# Altium schematic symbol library Components - 24.04.20 - 00.18.SchLib: 1 symbol
Pins are listed as number, name and electrical type; pins without a type are passive.

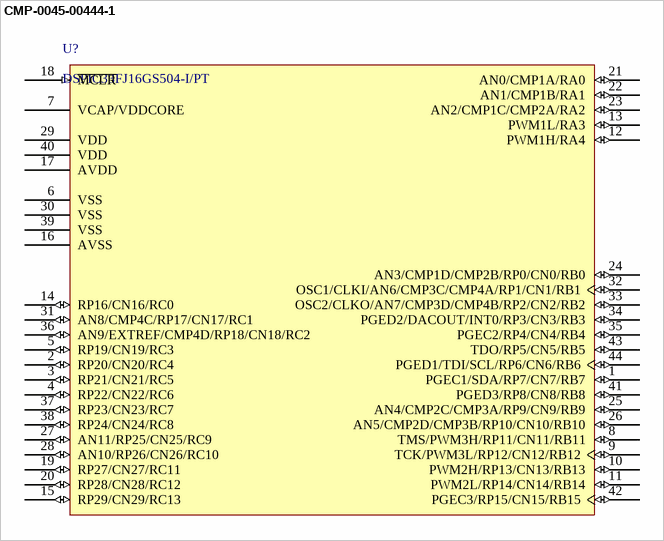
[diagram p0: symbol CMP-0045-00444-1]

## CMP-0045-00444-1
designator U?, comment DSPIC33FJ16GS504-I/PT
High-Performance 16-bit Digital Signal Controller, 16 KB Flash, 2 KB RAM , 44-Pin TQFP, Industrial Temperature; PackageVersion: revBB, Aug-2009; PackageDescription: 44-Lead Plastic Thin Quad Flatpack (PT) - 10x10x1mm Body, 2.00mm [TQFP]; Code_JEDEC: MS-026; PackageReference: TQFP-PT44; DatasheetVersion: revD, Mar-2009
footprint TQFP-PT44_M (Thin QFP, 44-Leads, Body 10x10mm, Pitch 0.8mm, IPC Low Density)
footprint TQFP-PT44_N (Thin QFP, 44-Leads, Body 10x10mm, Pitch 0.8mm, IPC Medium Density)
footprint TQFP-PT44_L (Thin QFP, 44-Leads, Body 10x10mm, Pitch 0.8mm, IPC High Density)
pins: 1 PGEC1/SDA/RP7/CN7/RB7 (io), 2 RP20/CN20/RC4 (io), 3 RP21/CN21/RC5 (io), 4 RP22/CN22/RC6 (io), 5 RP19/CN19/RC3 (io), 6 VSS (power), 7 VCAP/VDDCORE (power), 8 TMS/PWM3H/RP11/CN11/RB11 (io), 9 TCK/PWM3L/RP12/CN12/RB12 (io), 10 PWM2H/RP13/CN13/RB13 (io), 11 PWM2L/RP14/CN14/RB14 (io), 12 PWM1H/RA4 (io), 13 PWM1L/RA3 (io), 14 RP16/CN16/RC0 (io), 15 RP29/CN29/RC13 (io), 16 AVSS (power), 17 AVDD (power), 18 ~{MCLR} (in), 19 RP27/CN27/RC11 (io), 20 RP28/CN28/RC12 (io), 21 AN0/CMP1A/RA0 (io), 22 AN1/CMP1B/RA1 (io), 23 AN2/CMP1C/CMP2A/RA2 (io), 24 AN3/CMP1D/CMP2B/RP0/CN0/RB0 (io), 25 AN4/CMP2C/CMP3A/RP9/CN9/RB9 (io), 26 AN5/CMP2D/CMP3B/RP10/CN10/RB10 (io), 27 AN11/RP25/CN25/RC9 (io), 28 AN10/RP26/CN26/RC10 (io), 29 VDD (power), 30 VSS (power), 31 AN8/CMP4C/RP17/CN17/RC1 (io), 32 OSC1/CLKI/AN6/CMP3C/CMP4A/RP1/CN1/RB1 (io), 33 OSC2/CLKO/AN7/CMP3D/CMP4B/RP2/CN2/RB2 (io), 34 PGED2/DACOUT/INT0/RP3/CN3/RB3 (io), 35 PGEC2/RP4/CN4/RB4 (io), 36 AN9/EXTREF/CMP4D/RP18/CN18/RC2 (io), 37 RP23/CN23/RC7 (io), 38 RP24/CN24/RC8 (io), 39 VSS (power), 40 VDD (power), 41 PGED3/RP8/CN8/RB8 (io), 42 PGEC3/RP15/CN15/RB15 (io), 43 TDO/RP5/CN5/RB5 (io), 44 PGED1/TDI/SCL/RP6/CN6/RB6 (io)